# Altium schematic symbol library SCH - MCU - NUVOTON - NUVOTON M031TB0AE.SchLib: 1 symbol
Pins are listed as number, name and electrical type; pins without a type are passive.

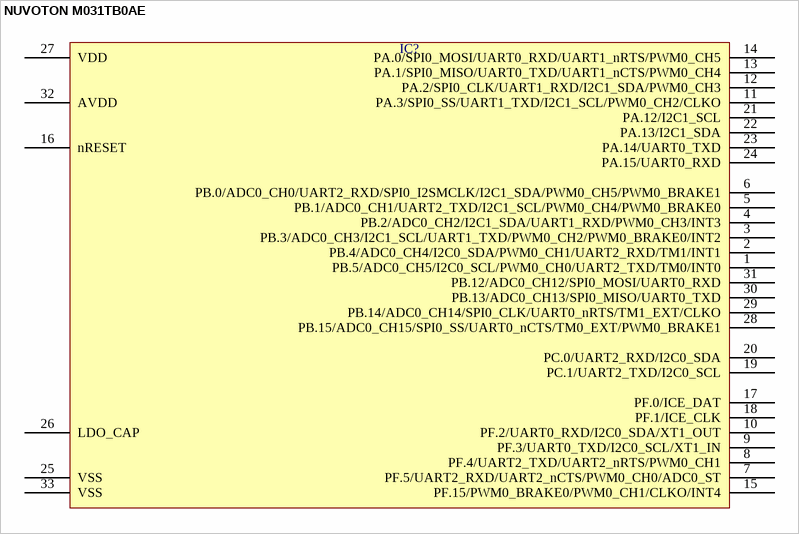
[diagram p0: symbol NUVOTON M031TB0AE]

## NUVOTON M031TB0AE
designator IC?  (value not drawn)
pins: 1 PB.5/ADC0_CH5/I2C0_SCL/PWM0_CH0/UART2_TXD/TM0/INT0, 2 PB.4/ADC0_CH4/I2C0_SDA/PWM0_CH1/UART2_RXD/TM1/INT1, 3 PB.3/ADC0_CH3/I2C1_SCL/UART1_TXD/PWM0_CH2/PWM0_BRAKE0/INT2, 4 PB.2/ADC0_CH2/I2C1_SDA/UART1_RXD/PWM0_CH3/INT3, 5 PB.1/ADC0_CH1/UART2_TXD/I2C1_SCL/PWM0_CH4/PWM0_BRAKE0, 6 PB.0/ADC0_CH0/UART2_RXD/SPI0_I2SMCLK/I2C1_SDA/PWM0_CH5/PWM0_BRAKE1, 7 PF.5/UART2_RXD/UART2_nCTS/PWM0_CH0/ADC0_ST, 8 PF.4/UART2_TXD/UART2_nRTS/PWM0_CH1, 9 PF.3/UART0_TXD/I2C0_SCL/XT1_IN, 10 PF.2/UART0_RXD/I2C0_SDA/XT1_OUT, 11 PA.3/SPI0_SS/UART1_TXD/I2C1_SCL/PWM0_CH2/CLKO, 12 PA.2/SPI0_CLK/UART1_RXD/I2C1_SDA/PWM0_CH3, 13 PA.1/SPI0_MISO/UART0_TXD/UART1_nCTS/PWM0_CH4, 14 PA.0/SPI0_MOSI/UART0_RXD/UART1_nRTS/PWM0_CH5, 15 PF.15/PWM0_BRAKE0/PWM0_CH1/CLKO/INT4, 16 nRESET, 17 PF.0/ICE_DAT, 18 PF.1/ICE_CLK, 19 PC.1/UART2_TXD/I2C0_SCL, 20 PC.0/UART2_RXD/I2C0_SDA, 21 PA.12/I2C1_SCL, 22 PA.13/I2C1_SDA, 23 PA.14/UART0_TXD, 24 PA.15/UART0_RXD, 25 VSS, 26 LDO_CAP, 27 VDD, 28 PB.15/ADC0_CH15/SPI0_SS/UART0_nCTS/TM0_EXT/PWM0_BRAKE1, 29 PB.14/ADC0_CH14/SPI0_CLK/UART0_nRTS/TM1_EXT/CLKO, 30 PB.13/ADC0_CH13/SPI0_MISO/UART0_TXD, 31 PB.12/ADC0_CH12/SPI0_MOSI/UART0_RXD, 32 AVDD, 33 VSS